# Altium footprint library BGA62C40P9X9_383X383X55.PcbLib: 1 footprints
Each footprint in its own frame and in the unit in brackets; x right, y up, seen from the top. Pads: shape width x height; smd on the part's side, far side on the other; paste and mask are expansions set on the pad; w line width, h text height; cw(c..) or ccw(c..) is an arc to the next point about the centre after c.
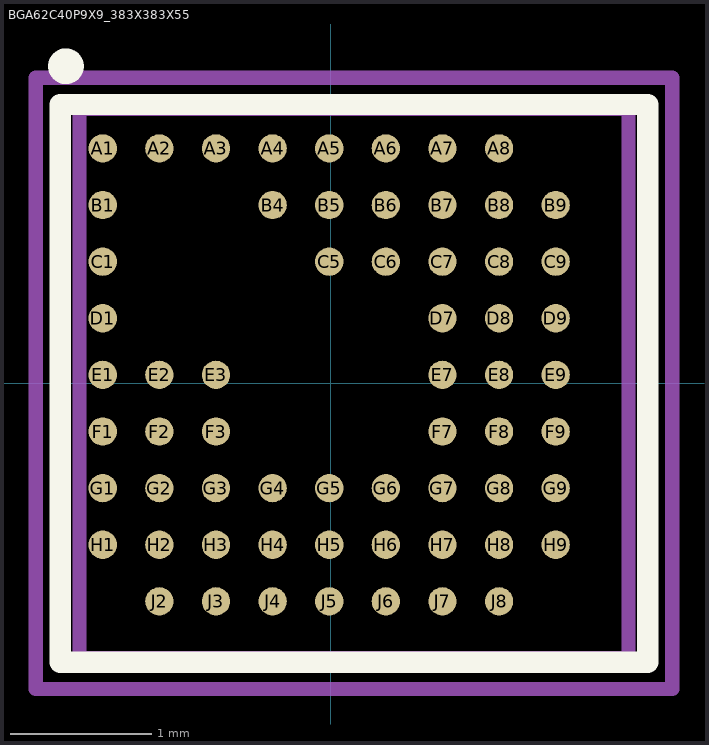
[diagram p0: the footprint, top view; thin cyan lines are the x and y axes]

## BGA62C40P9X9_383X383X55 [mm]
pads (62):
  round 0.2 smd: A1(-1.61,1.66) A2(-1.21,1.66) A3(-0.81,1.66) A4(-0.41,1.66) A5(-0.01,1.66) A6(0.39,1.66) A7(0.79,1.66) A8(1.19,1.66) B1(-1.61,1.26) B4(-0.41,1.26) B5(-0.01,1.26) B6(0.39,1.26) B7(0.79,1.26) B8(1.19,1.26) B9(1.59,1.26) C1(-1.61,0.86) C5(-0.01,0.86) C6(0.39,0.86) C7(0.79,0.86) C8(1.19,0.86) C9(1.59,0.86) D1(-1.61,0.46) D7(0.79,0.46) D8(1.19,0.46) D9(1.59,0.46) E1(-1.61,0.06) E2(-1.21,0.06) E3(-0.81,0.06) E7(0.79,0.06) E8(1.19,0.06) E9(1.59,0.06) F1(-1.61,-0.34) F2(-1.21,-0.34) F3(-0.81,-0.34) F7(0.79,-0.34) F8(1.19,-0.34) F9(1.59,-0.34) G1(-1.61,-0.74) G2(-1.21,-0.74) G3(-0.81,-0.74) G4(-0.41,-0.74) G5(-0.01,-0.74) G6(0.39,-0.74) G7(0.79,-0.74) G8(1.19,-0.74) G9(1.59,-0.74) H1(-1.61,-1.14) H2(-1.21,-1.14) H3(-0.81,-1.14) H4(-0.41,-1.14) H5(-0.01,-1.14) H6(0.39,-1.14) H7(0.79,-1.14) H8(1.19,-1.14) H9(1.59,-1.14) J2(-1.21,-1.54) J3(-0.81,-1.54) J4(-0.41,-1.54) J5(-0.01,-1.54) J6(0.39,-1.54) J7(0.79,-1.54) J8(1.19,-1.54)
Top Overlay:
  circle w0.15: c-1.87,2.241 r0.051
  lines w0.15: -1.91,-1.97 2.24,-1.97 2.24,1.97 -1.91,1.97 -1.91,-1.97
Mechanical 13:
  lines w0.1: -1.775,-1.94 2.105,-1.94 2.105,1.94 -1.775,1.94 -1.775,-1.94
Mechanical 15:
  lines w0.1: -2.083,-2.159 2.413,-2.159 2.413,2.159 -2.083,2.159 -2.083,-2.159
3D body: height 0.53, standoff -0.02, extent -1.75,-1.889 2.1,1.941